# Altium footprint library SMPS.PcbLib: 16 footprints
Each footprint in its own frame and in the unit in brackets; x right, y up, seen from the top. Pads: shape width x height; smd on the part's side, far side on the other; paste and mask are expansions set on the pad; w line width, h text height; cw(c..) or ccw(c..) is an arc to the next point about the centre after c.
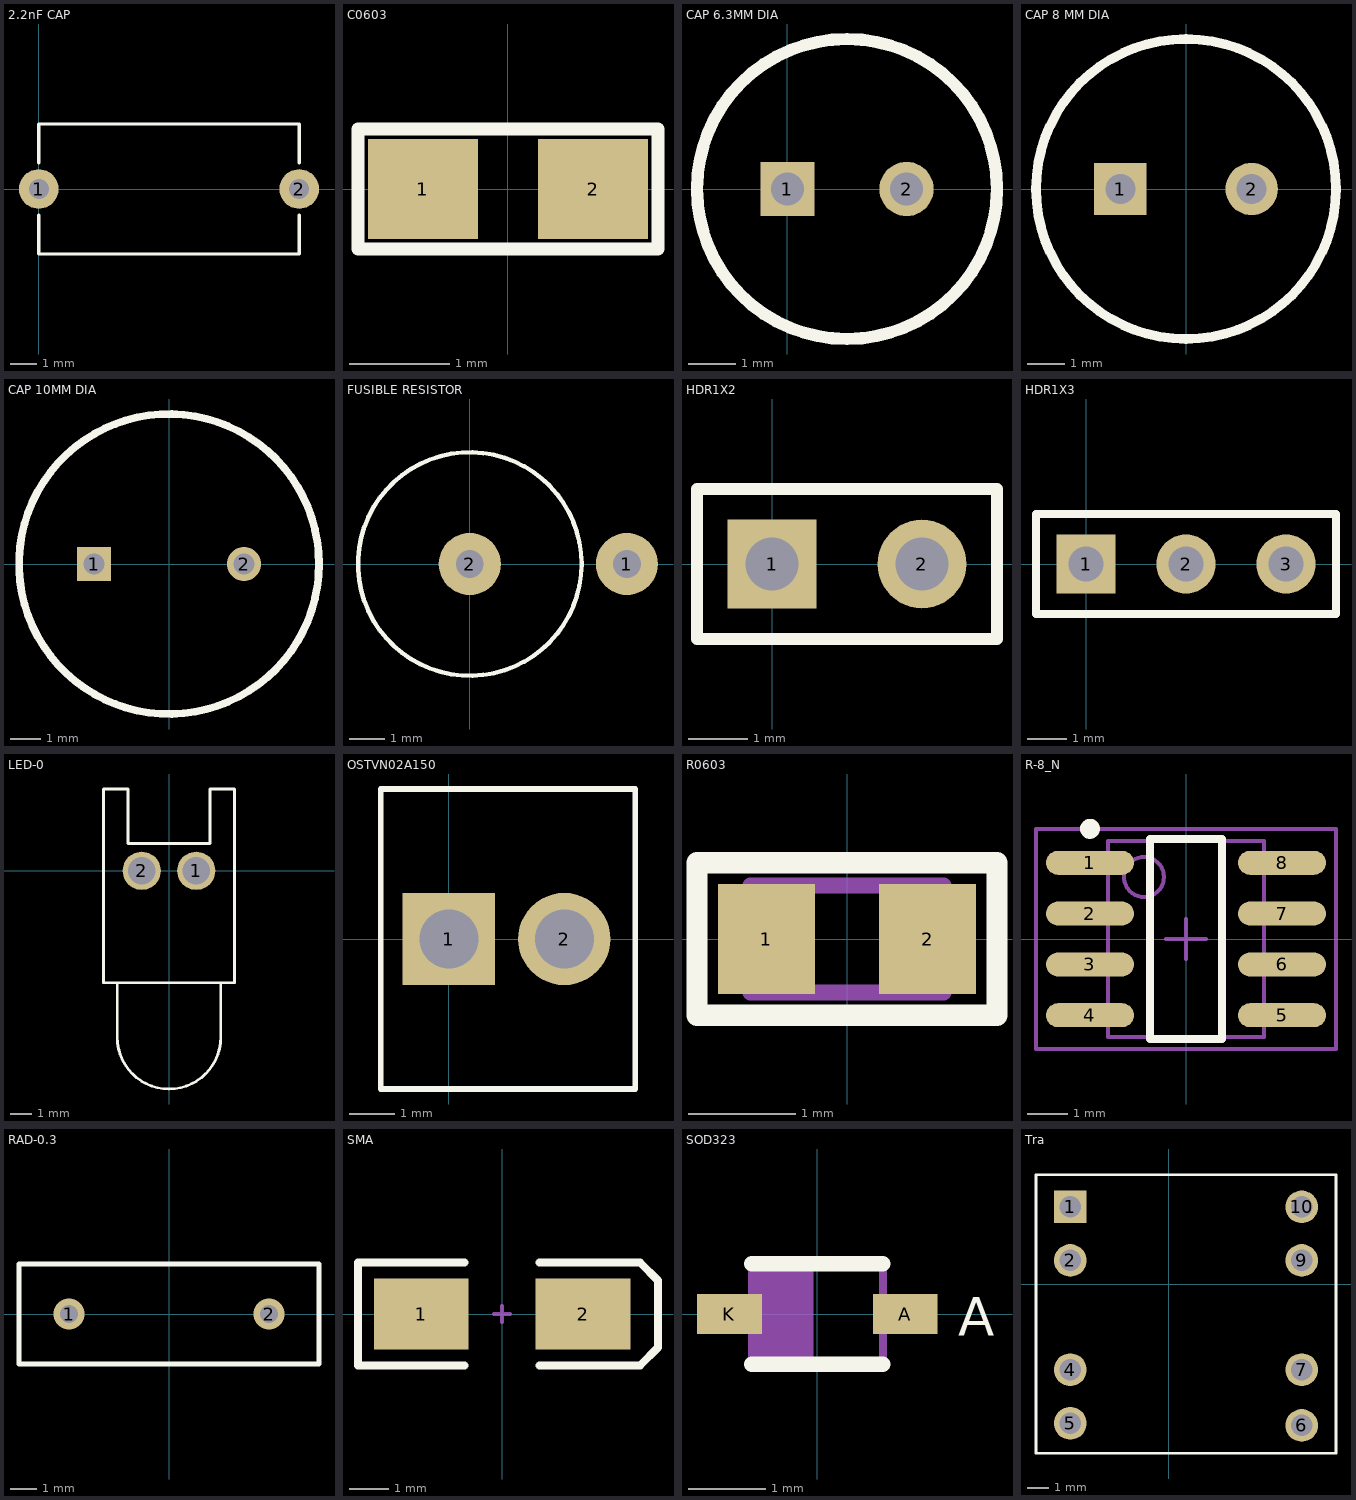
[diagram p0: the footprints below, top view; thin cyan lines are the x and y axes]

## 2.2nF CAP [mil]
pads (2):
  round 60 hole 30: 1(0,0) 2(393.7,0)
Top Overlay:
  lines w5: 0,-39.37 0,-98.43 393.7,-98.43 393.7,-39.37 ; 0,39.37 0,98.43 393.7,98.43 393.7,39.37
3D body: height 570.85, standoff -1122.05, extent -23.62,-88.58 401.57,108.27

## C0603 [mm]
pads (2):
  rect 1.1x1 smd: 1(-0.85,0) 2(0.85,0)
Top Overlay:
  lines w0.127: -1.5,-0.6 -1.5,0.6 1.5,0.6 1.5,-0.6 -1.5,-0.6
3D body: height 0.83, standoff -0.03, extent -0.9,-0.43 0.7,0.43

## CAP 6.3MM DIA [mil]
pads (2):
  rect 45x45 hole 27.56: 1(0,0)
  round 45 hole 27.56: 2(98.43,0)
Top Overlay:
  circle w10: c49.21,0 r124.02
3D body: height 511.81, standoff 0, extent -71.85,-123.76 175.2,123.78

## CAP 8 MM DIA [mm]
pads (2):
  rect 1.397x1.397 hole 0.8: 1(-1.75,0)
  round 1.397 hole 0.8: 2(1.75,0)
Top Overlay:
  circle w0.254: c0,0 r4
3D body: height 17.5, standoff 0, extent -3.969,-3.984 4,4

## CAP 10MM DIA [mm]
pads (2):
  rect 1.143x1.143 hole 0.7: 1(-2.5,0)
  round 1.143 hole 0.7: 2(2.5,0)
Top Overlay:
  circle w0.254: c0,0 r5
3D body: height 17, standoff 0, extent -4.98,-5 4.98,4.98

## FUSIBLE RESISTOR [mil]
pads (2):
  round 70 hole 31.5: 1(177.17,0) 2(0,0)
Top Overlay:
  circle w5: c0,0 r125.98
3D body: height 501.03, standoff -118.11, extent -85.7,-62.99 195.94,75.09

## HDR1X2 [mm]
pads (2):
  rect 1.5x1.5 hole 0.9: 1(0,0)
  round 1.5 hole 0.9: 2(2.54,0)
Top Overlay:
  lines w0.2: -1.27,-1.27 3.81,-1.27 3.81,1.27 -1.27,1.27 -1.27,-1.27
3D body: height 8.49, standoff -2.49, extent -1.215,-1.34 3.865,1.2

## HDR1X3 [mm] "Connector; Header; 3 Position"
pads (3):
  rect 1.5x1.5 hole 0.9: 1(0,0)
  round 1.5 hole 0.9: 2(2.54,0) 3(5.08,0)
Top Overlay:
  lines w0.2: -1.27,-1.27 6.35,-1.27 6.35,1.27 -1.27,1.27 -1.27,-1.27

## LED-0 [mil] "LED; 2 Leads"
pads (2):
  round 70 hole 50: 1(50,0) 2(-50,0)
Top Overlay:
  lines w5: -95,-205 -95,-305 ccw(c0,-305) 95,-305 95,-205 ; -120,-205 120,-205 120,150 75,150 75,50 -75,50 -75,150 -120,150 -120,-205

## OSTVN02A150 [mil]
pads (2):
  rect 80x80 hole 51.18: 1(0,0)
  round 80 hole 51.18: 2(100,0)
Top Overlay:
  lines w5: -59.06,-129.92 161.42,-129.92 161.42,129.92 -59.06,129.92 -59.06,-129.92

## R0603 [mm]
pads (2):
  rect 0.9x1.02 smd: 1(-0.75,0) 2(0.75,0)
Top Overlay:
  lines w0.2: -1.397,-0.711 1.397,-0.711 1.397,0.711 -1.397,0.711 -1.397,-0.711
Mechanical 15:
  lines w0.15: -0.9,-0.5 0.9,-0.5 0.9,0.5 -0.9,0.5 -0.9,-0.5
3D body: height 0.4, standoff 0, extent -0.8,-0.4 0.8,0.4

## R-8_N [mm] "SOIC, 8-Leads, Body 4.9x3.9mm, Pitch 1.27mm, IPC Medium Density"
height 1.75
pads (8):
  oval 2.2x0.6 smd: 1(-2.4,1.905) 2(-2.4,0.635) 3(-2.4,-0.635) 4(-2.4,-1.905) 5(2.4,-1.905) 6(2.4,-0.635) 7(2.4,0.635) 8(2.4,1.905)
Top Overlay:
  circle w0.25: c-2.4,2.755 r0.125
  lines w0.2: -0.9,-2.5 0.9,-2.5 0.9,2.5 -0.9,2.5 -0.9,-2.5
Mechanical 13:
  circle w0.1: c-1.05,1.55 r0.5
  lines w0.1: -1.95,-2.45 1.95,-2.45 1.95,2.45 -1.95,2.45 -1.95,-2.45
Mechanical 15:
  lines w0.1: -0.5,0 0.5,0 ; 0,-0.5 0,0.5 ; -3.75,-2.75 3.75,-2.75 3.75,2.75 -3.75,2.75 -3.75,-2.75
3D body: height 1.75, standoff 0, extent -1.95,-2.45 1.95,2.45

## RAD-0.3 [mm] "Radial Cap, Thru-Hole; 2 Leads; 0.3 in Pin Spacing"
height 6
pads (2):
  round 1.2 hole 0.7: 1(-3.81,0) 2(3.81,0)
Top Overlay:
  lines w0.2: -5.715,-1.905 5.715,-1.905 5.715,1.905 -5.715,1.905 -5.715,-1.905

## SMA [mm]
pads (2):
  rect 2.4x1.8 smd: 1(-2.05,0) 2(2.05,0)
Top Overlay:
  lines w0.2: -0.95,-1.3 -3.65,-1.3 -3.65,1.3 -0.95,1.3 ; 0.95,-1.3 3.5,-1.3 3.95,-0.85 3.95,0.85 3.5,1.3 0.95,1.3
Mechanical 1:
  lines w0.1: -0.2,0 0.2,0 ; 0,-0.2 0,0.2
3D body: height 1.2, standoff -0.01, extent -1.85,-0.75 1.9,0.95

## SOD323 [mm]
pads (2):
  rect 0.84x0.52 smd: A(1.14,0) K(-1.14,0)
Top Overlay:
  lines w0.2: -0.85,-0.65 0.85,-0.65 ; -0.85,0.65 0.85,0.65
  text "A" at 1.829,-0.279 h0.5
Mechanical 15:
  region: -0.85,-0.625 -0.05,-0.625 -0.05,0.625 -0.85,0.625
  lines w0.1: -0.85,-0.625 -0.85,0.625 0.85,0.625 0.85,-0.625 -0.85,-0.625
  text "1" at 0.45,-0.164 h0.75
3D body: height 0.79, standoff -0.08, extent -1.375,-0.664 1.325,0.686

## Tra [mm]
pads (8):
  rect 1.524x1.524 hole 1: 1(-4.6,3.6)
  round 1.524 hole 1: 2(-4.6,1.1) 4(-4.6,-4) 5(-4.6,-6.5) 6(6.2,-6.6) 7(6.2,-4) 9(6.2,1.1) 10(6.2,3.6)
Top Overlay:
  lines w0.127: -6.2,-7.9 7.8,-7.9 7.8,5.1 -6.2,5.1 -6.2,-7.9
3D body: height 11.88, standoff -4.67, extent -5.3,-7.91 7.1,5.31